# Altium footprint library BMS_Devices.PcbLib: 136 footprints (part 8 of 9)
Each footprint in its own frame and in the unit in brackets; x right, y up, seen from the top. Pads: shape width x height; smd on the part's side, far side on the other; paste and mask are expansions set on the pad; w line width, h text height; cw(c..) or ccw(c..) is an arc to the next point about the centre after c.
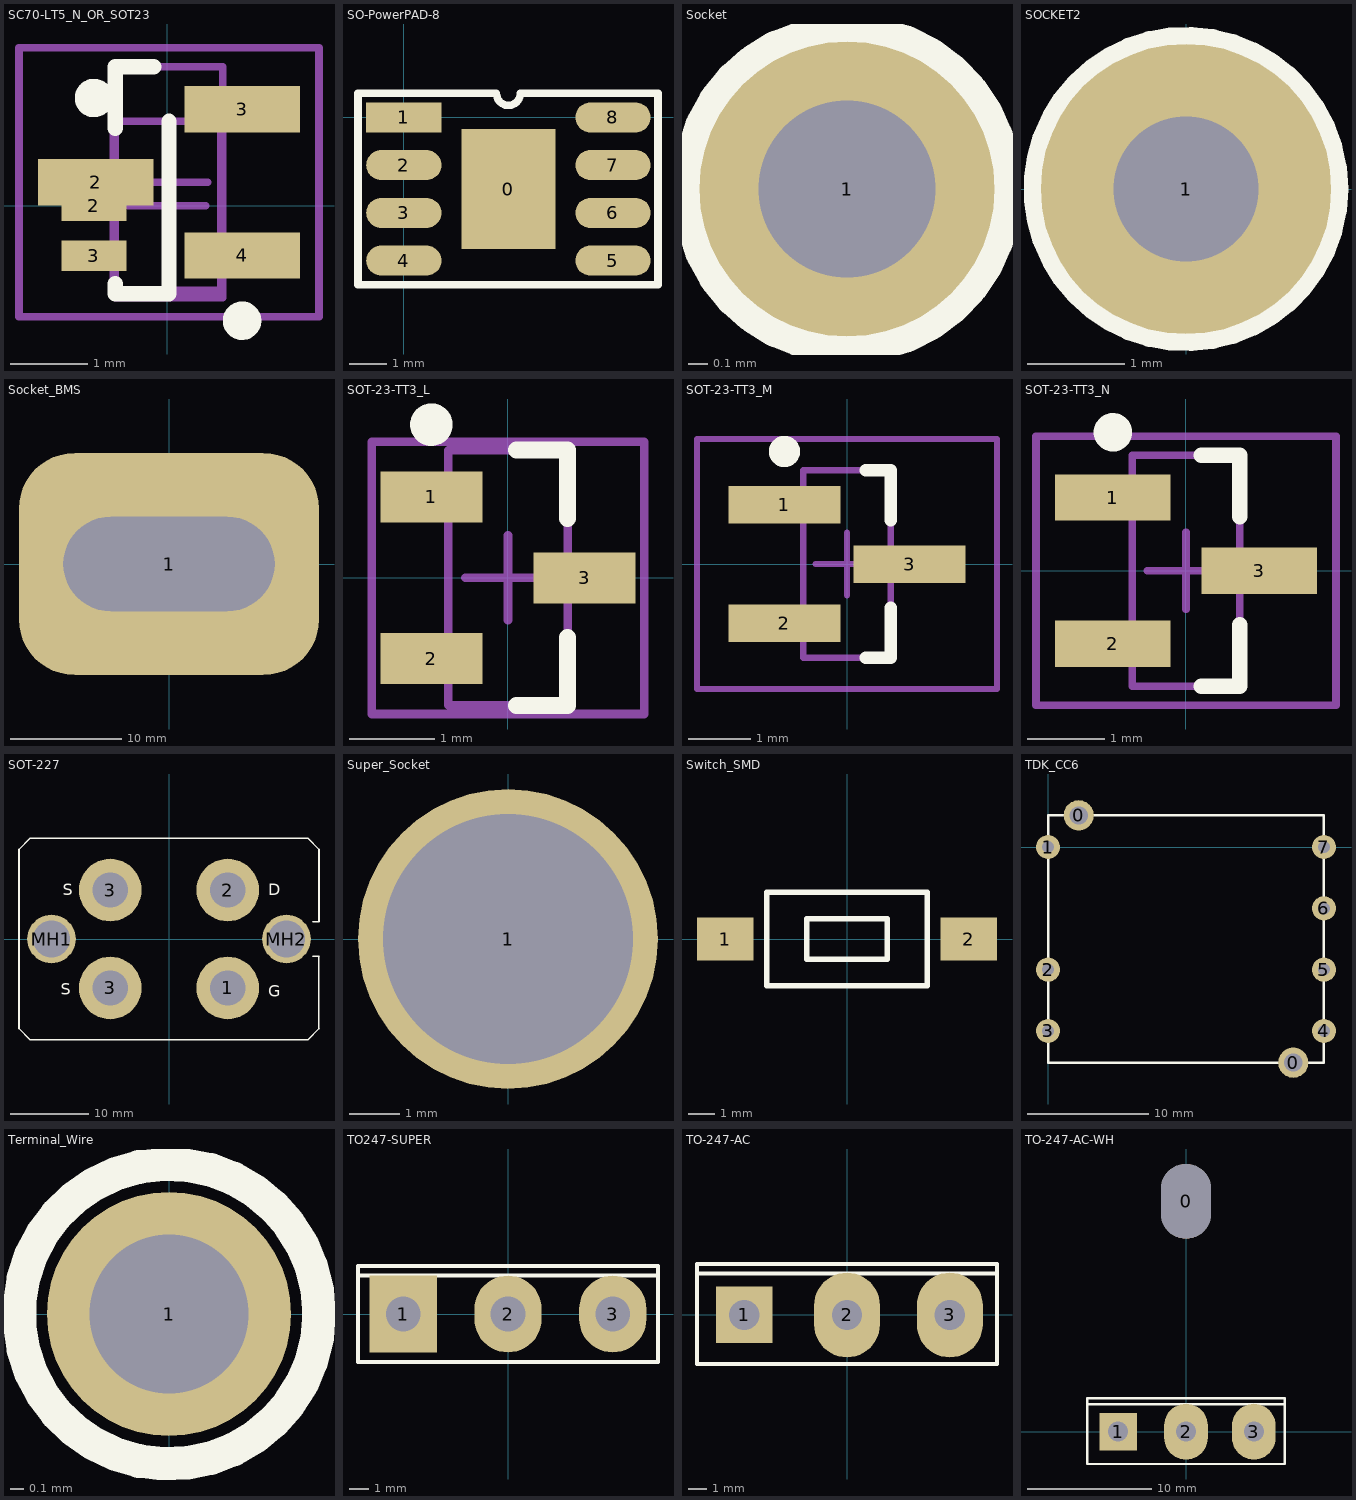
[diagram p7: the footprints below, top view; thin cyan lines are the x and y axes]

## SC70-LT5_N_OR_SOT23 [mm] "SOT353, 5-Leads, Body 2x1.3mm, Pitch 0.65mm, Lead Span 2.1mm, IPC Medium Density"
height 1.1
pads (5):
  rect 0.85x0.4 smd: 2(-0.95,0) 3(-0.95,-0.65)
  rect 1.5x0.6 smd: 2(-0.925,0.305) 3(0.975,1.255) 4(0.975,-0.645)
Top Overlay:
  circle w0.25: c-0.95,1.4 r0.125
  circle w0.25: c0.975,-1.495 r0.125
  lines w0.2: -0.675,-1.016 -0.675,-1.143 0.025,-1.143 0.025,1.1 ; -0.675,1.005 -0.675,1.805 -0.175,1.805
Mechanical 13:
  lines w0.1: -0.7,-1.1 -0.7,1.1 0.7,1.1 0.7,-1.1 -0.7,-1.1 ; -0.675,-1.195 0.725,-1.195 0.725,1.805 -0.675,1.805 -0.675,-1.195
Mechanical 15:
  lines w0.1: -0.5,0 0.5,0 ; -0.475,0.305 0.525,0.305 ; 0,-0.5 0,0.5 ; 0.025,-0.195 0.025,0.805 ; -1.925,-1.445 1.975,-1.445 1.975,2.055 -1.925,2.055 -1.925,-1.445
3D body: height 1.1, standoff 0, extent -0.7,-1.1 0.7,1.1
3D body: height 1.12, standoff 0, extent -0.675,-1.195 0.725,1.805

## SO-PowerPAD-8 [mm]
pads (9):
  rect 2.5x3.2 smd: 0(2.78,-1.905)
  rect 2x0.8 smd: 1(0,0)
  oval 2x0.8 smd: 2(0,-1.27) 3(0,-2.54) 4(0,-3.81) 5(5.56,-3.81) 6(5.56,-2.54) 7(5.56,-1.27) 8(5.56,0)
Top Overlay:
  lines w0.2: -1.219,-4.445 -1.219,0.635 2.462,0.635 ccw(c2.78,0.635) 3.097,0.635 6.756,0.635 6.756,-4.445 -1.219,-4.445

## Socket [mm]
pads (1):
  round 1.5 hole 0.9: 1(0,0)
Top Overlay:
  circle w0.254: c0,0 r0.762

## SOCKET2 [mm]
pads (1):
  round 3 hole 1.5: 1(0,0)
Top Overlay:
  circle w0.254: c0,0 r1.549

## Socket_BMS [mm]
pads (1):
  rrect50% 27x20 hole 8.5 slot 19 at 0 deg: 1(0,0)

## SOT-23-TT3_L [mm] "SOT23, 3-Leads, Body 2.9x1.3mm, Pitch 0.95mm, Lead Span 2.4mm, IPC High Density"
height 1.12
pads (3):
  rect 1.2x0.6 smd: 1(-0.9,0.95) 2(-0.9,-0.95) 3(0.9,0)
Top Overlay:
  circle w0.25: c-0.9,1.8 r0.125
  lines w0.2: 0.1,-1.5 0.7,-1.5 0.7,-0.7 ; 0.1,1.5 0.7,1.5 0.7,0.7
Mechanical 13:
  lines w0.1: -0.7,-1.5 -0.7,1.5 0.7,1.5 0.7,-1.5 -0.7,-1.5
Mechanical 15:
  lines w0.1: -0.5,0 0.5,0 ; 0,-0.5 0,0.5 ; -1.6,-1.6 -1.6,1.6 1.6,1.6 1.6,-1.6 -1.6,-1.6
3D body: height 1.12, standoff 0, extent -0.7,-1.5 0.7,1.5

## SOT-23-TT3_M [mm] "SOT23, 3-Leads, Body 2.9x1.3mm, Pitch 0.95mm, Lead Span 2.4mm, IPC Low Density"
height 1.12
pads (3):
  rect 1.8x0.6 smd: 1(-1,0.95) 2(-1,-0.95) 3(1,0)
Top Overlay:
  circle w0.25: c-1,1.8 r0.125
  lines w0.2: 0.3,-1.5 0.7,-1.5 0.7,-0.7 ; 0.3,1.5 0.7,1.5 0.7,0.7
Mechanical 13:
  lines w0.1: -0.7,-1.5 0.7,-1.5 0.7,1.5 -0.7,1.5 -0.7,-1.5
Mechanical 15:
  lines w0.1: -0.5,0 0.5,0 ; 0,-0.5 0,0.5 ; -2.4,-2 2.4,-2 2.4,2 -2.4,2 -2.4,-2
3D body: height 1.12, standoff 0, extent -0.7,-1.5 0.7,1.5

## SOT-23-TT3_N [mm] "SOT23, 3-Leads, Body 2.9x1.3mm, Pitch 0.95mm, Lead Span 2.4mm, IPC Medium Density"
height 1.12
pads (3):
  rect 1.5x0.6 smd: 1(-0.95,0.95) 2(-0.95,-0.95) 3(0.95,0)
Top Overlay:
  circle w0.25: c-0.95,1.8 r0.125
  lines w0.2: 0.2,-1.5 0.7,-1.5 0.7,-0.7 ; 0.2,1.5 0.7,1.5 0.7,0.7
Mechanical 13:
  lines w0.1: -0.7,-1.5 0.7,-1.5 0.7,1.5 -0.7,1.5 -0.7,-1.5
Mechanical 15:
  lines w0.1: -0.5,0 0.5,0 ; 0,-0.5 0,0.5 ; -1.95,-1.75 1.95,-1.75 1.95,1.75 -1.95,1.75 -1.95,-1.75
3D body: height 1.12, standoff 0, extent -0.7,-1.5 0.7,1.5

## SOT-227 [mm] "SOT-227; 4 Screw Terminals, 2 Mounting Holes"
height 12.3
pads (6):
  round 8 hole 4.5: 1(7.5,-6.25) 2(7.5,6.25) 3(-7.5,-6.25) 3(-7.5,6.25)
  round 6.2 hole 4.7: MH1(-15,0) MH2(15,0)
Top Overlay:
  circle w0.2: c7.5,-6.25 r2.15
  circle w0.2: c-7.5,-6.25 r2.15
  circle w0.2: c7.5,6.25 r2.15
  circle w0.2: c-7.5,6.25 r2.15
  lines w0.2: 18.35,-2.2 19.15,-2.2 ; 18.35,2.2 19.15,2.2 19.15,11.436 17.736,12.85 -17.736,12.85 -19.15,11.436 -19.15,-11.436 -17.736,-12.85 17.736,-12.85 19.15,-11.436 ; 19.123,-11.409 19.123,-2.2
  text "S" at -13.589,5.588 h1.5
  text "D" at 12.7,5.588 h1.5
  text "G" at 12.7,-7.366 h1.5
  text "S" at -13.843,-7.112 h1.5

## Super_Socket [mm]
pads (1):
  round 6 hole 5: 1(0,0)

## Switch_SMD [mm] "Modelo FSMSM"
height 2.9
pads (2):
  rect 2.1x1.6 smd: 1(-4.55,0) 2(4.55,0)
Top Overlay:
  lines w0.2: -3,-1.75 -3,1.75 3,1.75 3,-1.75 -3,-1.75 ; -1.5,-0.75 1.5,-0.75 1.5,0.75 -1.5,0.75 -1.5,-0.75
3D body: height 3.5, standoff 0, extent -2.997,-1.753 2.997,1.676
3D body: height 4.3, standoff 0, extent -1.473,-0.737 1.499,0.737

## TDK_CC6 [mm]
pads (9):
  round 2.5 hole 1.5: 0(2.54,2.63) 0(20.32,-17.87)
  round 2 hole 1: 1(0,0) 2(0,-10.16) 3(0,-15.24) 4(22.86,-15.24) 5(22.86,-10.16) 6(22.86,-5.08) 7(22.86,0)
Top Overlay:
  lines w0.2: 0,-17.87 22.86,-17.87 22.86,2.63 0,2.63 0,-17.87
3D body: height 8.5, standoff 0, extent -0.1,-17.97 22.96,2.73

## Terminal_Wire [mm]
pads (1):
  round 1.85 hole 1.2: 1(0,0)
Top Overlay:
  circle w0.254: c0,0 r1.135

## TO247-SUPER [mm] "SIP; 3 Leads; Body 20.3 x 15.6 x 5 mm (typ); Pitch 5.45 mm"
height 23.9
pads (3):
  rect 3.5x4 hole 1.8: 1(-5.45,0)
  oval 3.5x4 hole 1.8: 2(0,0) 3(5.45,0)
Top Overlay:
  lines w0.2: -7.8,2 7.8,2 ; -7.8,-2.5 -7.8,2.5 7.8,2.5 7.8,-2.5 -7.8,-2.5

## TO-247-AC [mm] "SIP with Mounting Hole; 3 Leads; Body 20 x 15.6 x 5 mm (typ); Pitch 5.45 mm"
height 24.6
pads (3):
  rect 3x3 hole 1.6: 1(-5.45,0)
  oval 3.5x4.5 hole 1.6: 2(0,0) 3(5.45,0)
Top Overlay:
  lines w0.2: -7.95,2.2 7.95,2.2 ; -7.95,-2.6 -7.95,2.7 7.95,2.7 7.95,-2.6 -7.95,-2.6

## TO-247-AC-WH [mm] "SIP with Mounting Hole; 3 Leads; Body 20 x 15.6 x 5 mm (typ); Pitch 5.45 mm"
height 24.6
pads (4):
  oval 4x6 hole 4 slot 6 at 90 deg unplated: 0(0,18.5)
  rect 3x3 hole 1.6: 1(-5.45,0)
  oval 3.5x4.5 hole 1.6: 2(0,0) 3(5.45,0)
Top Overlay:
  lines w0.2: -7.95,2.2 7.95,2.2 ; -7.95,-2.6 7.95,-2.6 7.95,2.7 -7.95,2.7 -7.95,-2.6
3D body: height 5, standoff 0, extent -2.139,15.387 2.139,21.57
3D body: height 5, standoff 0, extent -7.949,-2.599 7.949,2.199
3D body: height 5, standoff 0, extent -7.949,2.201 7.949,2.699